# EAGLE library part MT41J128M8 (library ic)
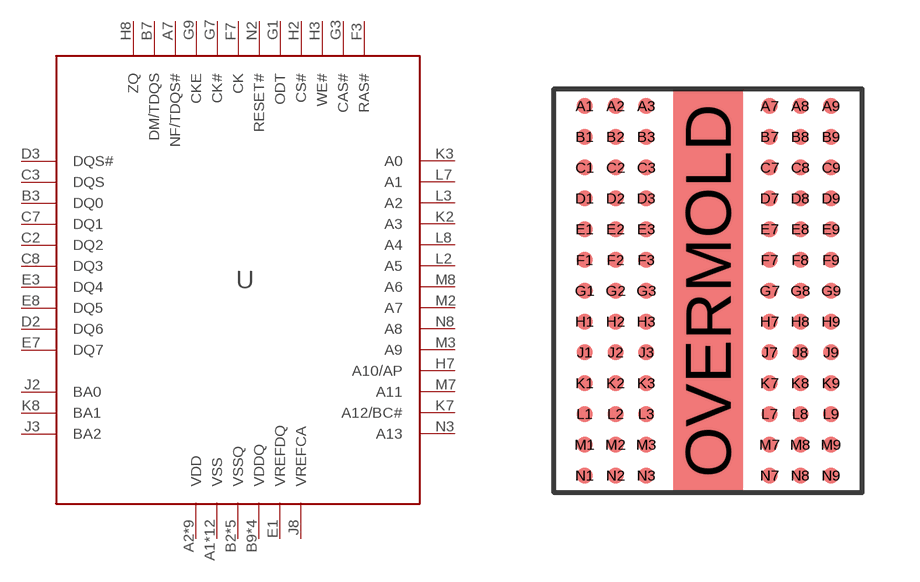
[diagram p11: symbol with the pads of FBGA78DA; footprint FBGA78DA]

Designator prefix U

## MT41J128M8  [FBGA78DA]
A1  VSS
A2  VDD
A7  NF/TDQS#
A8  VSS
A9  VDD
B1  VSS
B2  VSSQ
B3  DQ0
B7  DM/TDQS
B8  VSSQ
B9  VDDQ
C1  VDDQ
C2  DQ2
C3  DQS
C7  DQ1
C8  DQ3
C9  VSSQ
D1  VSSQ
D2  DQ6
D3  DQS#
D7  VDD
D8  VSS
D9  VSSQ
E1  VREFDQ
E2  VDDQ
E3  DQ4
E7  DQ7
E8  DQ5
E9  VDDQ
F2  VSS
F3  RAS#
F7  CK
F8  VSS
G1  ODT
G2  VDD
G3  CAS#
G7  CK#
G8  VDD
G9  CKE
H2  CS#
H3  WE#
H7  A10/AP
H8  ZQ
J1  VSS
J2  BA0
J3  BA2
J8  VREFCA
J9  VSS
K1  VDD
K2  A3
K3  A0
K7  A12/BC#
K8  BA1
K9  VDD
L1  VSS
L2  A5
L3  A2
L7  A1
L8  A4
L9  VSS
M1  VDD
M2  A7
M3  A9
M7  A11
M8  A6
M9  VDD
N1  VSS
N2  RESET#
N3  A13
N8  A8
N9  VSS

## Footprint FBGA78DA (pad centres in mm)
smd 0.42 x 0.42: A1 -3.2,4.8; A2 -2.4,4.8; A3 -1.6,4.8; A7 1.6,4.8; A8 2.4,4.8; A9 3.2,4.8; B1 -3.2,4; B2 -2.4,4; B3 -1.6,4; B7 1.6,4; B8 2.4,4; B9 3.2,4; C1 -3.2,3.2; C2 -2.4,3.2; C3 -1.6,3.2; C7 1.6,3.2; C8 2.4,3.2; C9 3.2,3.2; D1 -3.2,2.4; D2 -2.4,2.4; D3 -1.6,2.4; D7 1.6,2.4; D8 2.4,2.4; D9 3.2,2.4; E1 -3.2,1.6; E2 -2.4,1.6; E3 -1.6,1.6; E7 1.6,1.6; E8 2.4,1.6; E9 3.2,1.6; F1 -3.2,0.8; F2 -2.4,0.8; F3 -1.6,0.8; F7 1.6,0.8; F8 2.4,0.8; F9 3.2,0.8; G1 -3.2,0; G2 -2.4,0; G3 -1.6,0; G7 1.6,0; G8 2.4,0; G9 3.2,0; H1 -3.2,-0.8; H2 -2.4,-0.8; H3 -1.6,-0.8; H7 1.6,-0.8; H8 2.4,-0.8; H9 3.2,-0.8; J1 -3.2,-1.6; J2 -2.4,-1.6; J3 -1.6,-1.6; J7 1.6,-1.6; J8 2.4,-1.6; J9 3.2,-1.6; K1 -3.2,-2.4; K2 -2.4,-2.4; K3 -1.6,-2.4; K7 1.6,-2.4; K8 2.4,-2.4; K9 3.2,-2.4; L1 -3.2,-3.2; L2 -2.4,-3.2; L3 -1.6,-3.2; L7 1.6,-3.2; L8 2.4,-3.2; L9 3.2,-3.2; M1 -3.2,-4; M2 -2.4,-4; M3 -1.6,-4; M7 1.6,-4; M8 2.4,-4; M9 3.2,-4; N1 -3.2,-4.8; N2 -2.4,-4.8; N3 -1.6,-4.8; N7 1.6,-4.8; N8 2.4,-4.8; N9 3.2,-4.8
smd 1.8 x 10.5: OVERMOLD 0,0